# Altium footprint library lead.PcbLib: 42 footprints (part 1 of 3)
Each footprint in its own frame and in the unit in brackets; x right, y up, seen from the top. Pads: shape width x height; smd on the part's side, far side on the other; paste and mask are expansions set on the pad; w line width, h text height; cw(c..) or ccw(c..) is an arc to the next point about the centre after c.
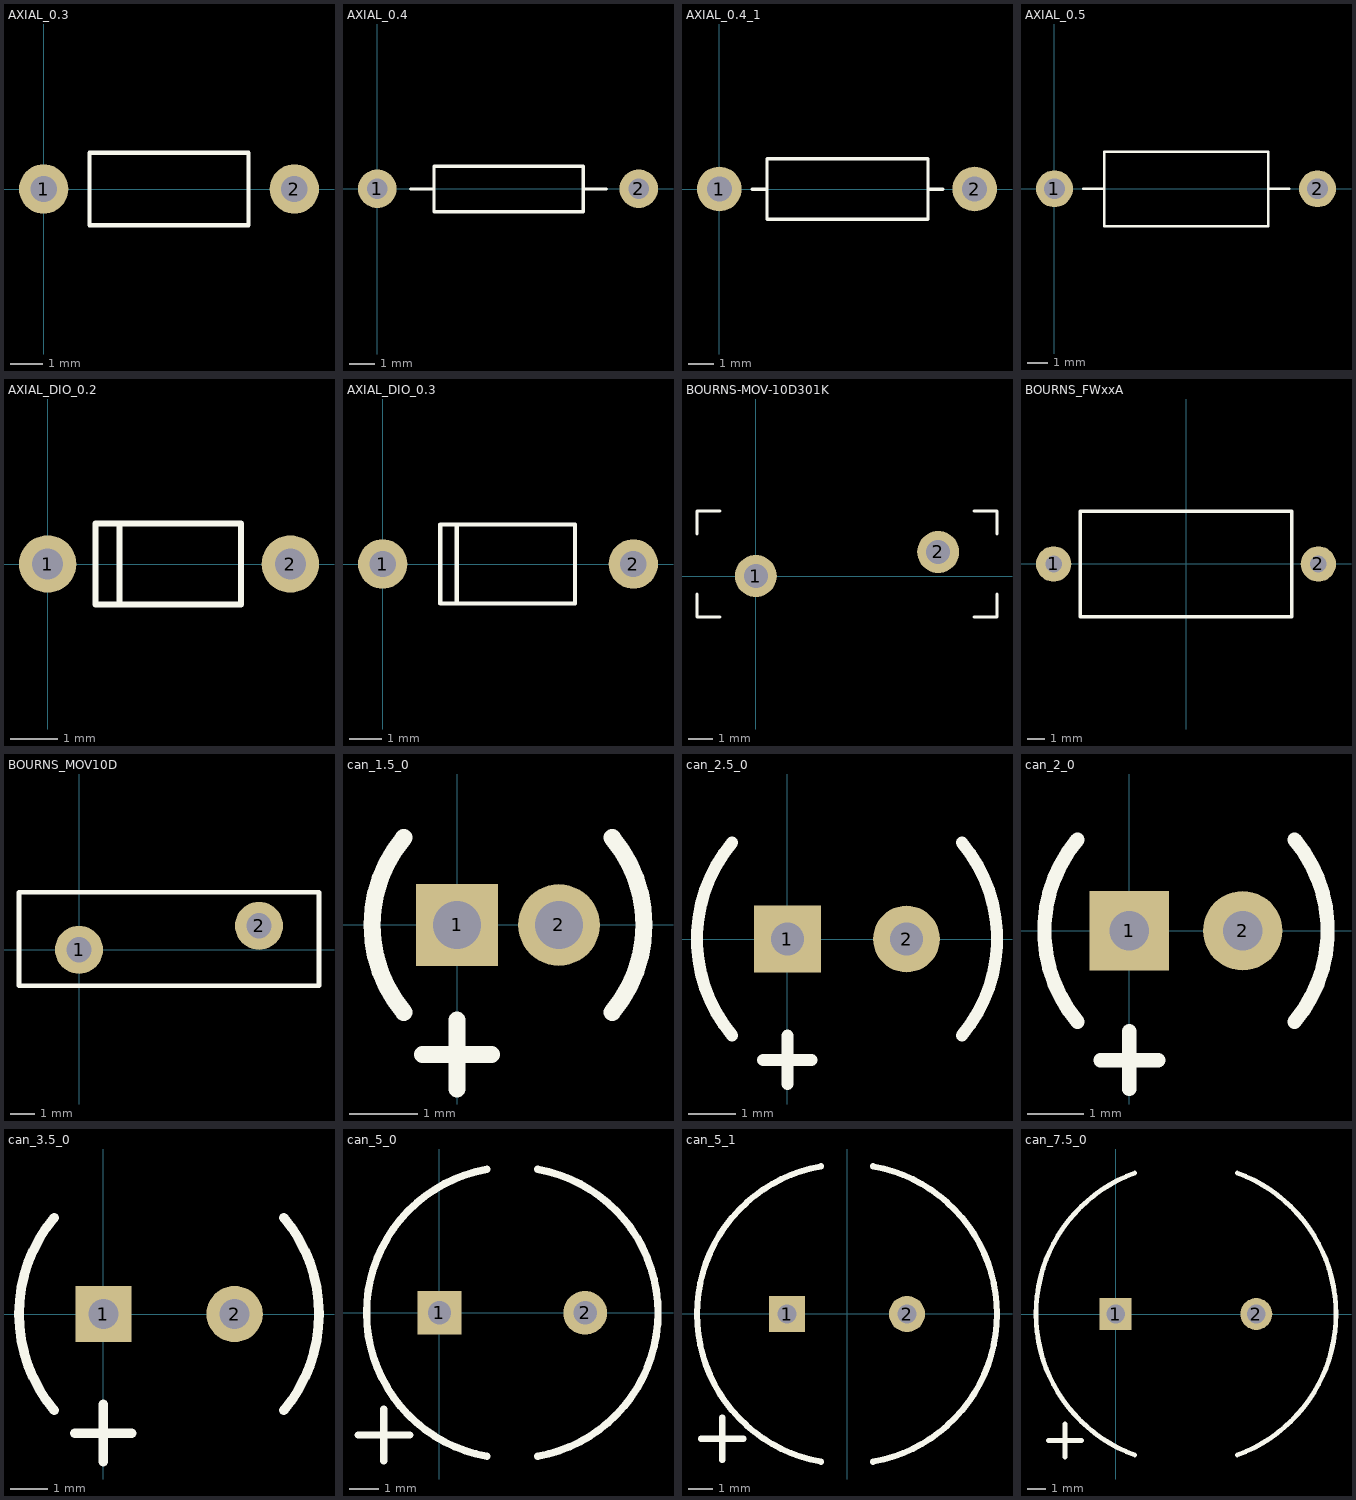
[diagram p0: the footprints below, top view; thin cyan lines are the x and y axes]

## AXIAL_0.3 [mm] "Axial leaded component, 0.3\" spacing"
pads (2):
  round 1.5 hole 0.8: 1(0,0) 2(7.62,0)
Top Overlay:
  lines w0.127: 1.397,-1.1 1.397,1.1 6.223,1.1 6.223,-1.1 1.397,-1.1
3D body "Resistor_0.3in.SLDPRT": height 2.4, standoff -1.75, extent -0.274,-1.15 7.875,1.143

## AXIAL_0.4 [mm] "Axial device, 0.4\" spacing"
pads (2):
  round 1.5 hole 0.8: 1(0,0) 2(10.16,0)
Top Overlay:
  lines w0.127: 1.3,-0.011 2.2,-0.011 ; 8,-0.011 8.9,-0.011 ; 2.2,-0.9 8,-0.9 8,0.878 2.2,0.878 2.2,-0.9
3D body "Resistor.SLDPRT": height 2.4, standoff -1.75, extent -0.254,-1.15 10.455,1.144

## AXIAL_0.4_1 [mil] "Axial device, 0.4\" spacing, 0.6W"
pads (2):
  round 70 hole 39.37: 1(0,0) 2(400,0)
Top Overlay:
  lines w5: 51.18,-0.43 74.8,-0.43 ; 326.77,-0.43 350.39,-0.43 ; 74.8,-47.24 74.8,47.24 326.77,47.24 326.77,-47.24 74.8,-47.24
3D body "Resistor_0.4_0.6W.SLDPRT": height 102.27, standoff -64.96, extent -10.99,-49.21 412.58,48.96

## AXIAL_0.5 [mil]
pads (2):
  round 70 hole 39.37: 1(0,0.43) 2(498.82,0.43)
Top Overlay:
  lines w5: 55.12,0.43 94.49,0.43 ; 405.51,0.43 444.88,0.43 ; 94.49,-70.87 94.49,70.87 405.51,70.87 405.51,-70.87 94.49,-70.87
3D body "Resistor_0.5.SLDPRT": height 145.67, standoff -82.68, extent -13.16,-70.86 509.23,70.87

## AXIAL_DIO_0.2 [mm] "Axial Diode 0.2\" lead spacing"
pads (2):
  round 1.2 hole 0.65: 1(0,0) 2(5.08,0)
Top Overlay:
  lines w0.127: 1.5,-0.85 1.5,0.85 ; 1,-0.85 1,0.85 4.05,0.85 4.05,-0.85 1,-0.85
3D body "AXIAL_DIO_0.2.SLDPRT": height 1.9, standoff -2.5, extent -0.239,-0.9 5.34,0.9

## AXIAL_DIO_0.3 [mm] "Axial Diode 0.3\" lead spacing"
pads (2):
  round 1.5 hole 0.8: 1(0,0) 2(7.62,0)
Top Overlay:
  lines w0.127: 2.25,-1.2 2.25,1.2 ; 1.75,-1.2 1.75,1.2 5.85,1.2 5.85,-1.2 1.75,-1.2
3D body "AXIAL_DIO_0.3.SLDPRT": height 2.55, standoff -2.7, extent -0.26,-1.24 7.86,1.25

## BOURNS-MOV-10D301K [mm] "Bourns MOV-10DzzzK series"
pads (2):
  round 1.75 hole 1: 1(0,0) 2(7.6,1)
Top Overlay:
  lines w0.127: -2.45,-0.75 -2.45,-1.7 -1.5,-1.7 ; -2.45,1.75 -2.45,2.7 -1.5,2.7 ; 9.1,-1.7 10.05,-1.7 10.05,-0.75 ; 9.1,2.7 10.05,2.7 10.05,1.75
3D body "mov-10d301k.stp": height 16.25, standoff -19.25, extent -2.45,-1.7 10.05,2.7

## BOURNS_FWxxA [mm]
pads (2):
  round 2 hole 0.95: 1(-7.5,0) 2(7.5,0)
Top Overlay:
  lines w0.2: -6,-3 -6,3 6,3 6,-3 -6,-3
3D body "BOURNS_FWxxA.SLDPRT": height 6.05, standoff -1.95, extent -7.824,-3 7.825,3

## BOURNS_MOV10D [mm] "Bourns MOV1D series Metal Oxide Varistor"
pads (2):
  round 2 hole 1.05: 1(0,0) 2(7.5,1)
Top Overlay:
  lines w0.2: -2.5,-1.5 10,-1.5 10,2.4 -2.5,2.4 -2.5,-1.5
3D body "mov-10d221k.stp": height 15.75, standoff -19.75, extent -2.45,-1.5 10.05,2.4

## can_1.5_0 [mm] "2 Leaded Al Cap, 1.5mm spacing, 4mm diameter"
height 20
pads (2):
  rect 1.2x1.2 hole 0.7: 1(0,0)
  round 1.2 hole 0.7: 2(1.5,0)
Top Overlay:
  lines w0.254: -0.782,-1.286 cw(c0.75,0) -0.782,1.286 ; -0.508,-1.905 0.508,-1.905 ; 0,-2.413 0,-1.397 ; 2.282,-1.286 ccw(c0.75,0) 2.282,1.286

## can_2.5_0 [mm] "2 Leaded Al Cap, 2.5mm spacing, 6.3mm diameter"
height 20
pads (2):
  rect 1.4x1.4 hole 0.7: 1(0,0)
  round 1.4 hole 0.7: 2(2.5,0)
Top Overlay:
  lines w0.254: -1.163,-2.025 cw(c1.25,0) -1.163,2.025 ; -0.508,-2.54 0.508,-2.54 ; 0,-3.048 0,-2.032 ; 3.663,-2.025 ccw(c1.25,0) 3.663,2.025

## can_2_0 [mm] "2 Leaded Al Cap, 2mm spacing, 5mm diameter"
height 20
pads (2):
  rect 1.4x1.4 hole 0.7: 1(0,0)
  round 1.4 hole 0.7: 2(2,0)
Top Overlay:
  lines w0.254: -0.915,-1.607 cw(c1,0) -0.915,1.607 ; -0.508,-2.286 0.508,-2.286 ; 0,-2.794 0,-1.778 ; 2.915,-1.607 ccw(c1,0) 2.915,1.607

## can_3.5_0 [mm] "2 Leaded Al Cap, 3.5mm spacing, 8mm diameter"
height 20
pads (2):
  rect 1.5x1.5 hole 0.8: 1(0,0)
  round 1.5 hole 0.8: 2(3.5,0)
Top Overlay:
  lines w0.254: -1.314,-2.571 cw(c1.75,0) -1.314,2.571 ; -0.762,-3.175 0.762,-3.175 ; 0,-3.937 0,-2.413 ; 4.814,-2.571 ccw(c1.75,0) 4.814,2.571

## can_5_0 [mm] "2 Leaded Al Cap, 5mm spacing, 10mm diameter"
height 20
pads (2):
  rect 1.5x1.5 hole 0.8: 1(0,0)
  round 1.5 hole 0.8: 2(5,0)
Top Overlay:
  lines w0.254: -2.794,-4.191 -1.016,-4.191 ; -1.905,-5.08 -1.905,-3.302 ; 1.632,-4.924 cw(c2.5,0) 1.632,4.924 ; 3.368,-4.924 ccw(c2.5,0) 3.368,4.924
3D body: height 0.25, standoff -26.8, extent -2.54,0 -2.54,0
3D body: height 12.5, standoff 0, extent -2.46,-5 7.54,5

## can_5_1 [mm] "2 Leaded Al Cap, 5mm spacing, 12.5mm diameter"
height 20
pads (2):
  rect 1.5x1.5 hole 0.8: 1(-2.5,0)
  round 1.5 hole 0.8: 2(2.5,0)
Top Overlay:
  lines w0.254: -6.089,-5.2 -4.311,-5.2 ; -5.2,-6.089 -5.2,-4.311 ; -1.085,-6.155 cw(c0,0) -1.085,6.155 ; 1.085,-6.155 ccw(c0,0) 1.085,6.155
3D body: height 12.5, standoff 0, extent -6.25,-6.247 6.25,6.247

## can_7.5_0 [mm] "2 Leaded Al Cap, 7.5mm spacing, 16mm diameter"
height 20
pads (2):
  rect 1.7x1.7 hole 1: 1(0,0)
  round 1.7 hole 1: 2(7.5,0)
Top Overlay:
  lines w0.254: -3.589,-6.742 -1.811,-6.742 ; -2.7,-7.631 -2.7,-5.853 ; 1.014,-7.518 cw(c3.75,0) 1.014,7.518 ; 6.486,-7.518 ccw(c3.75,0) 6.486,7.518
3D body: height 25, standoff 0, extent -4.25,-8 11.75,8